# Altium integrated library NSC Interface.IntLib: 511 symbols (part 3 of 17)
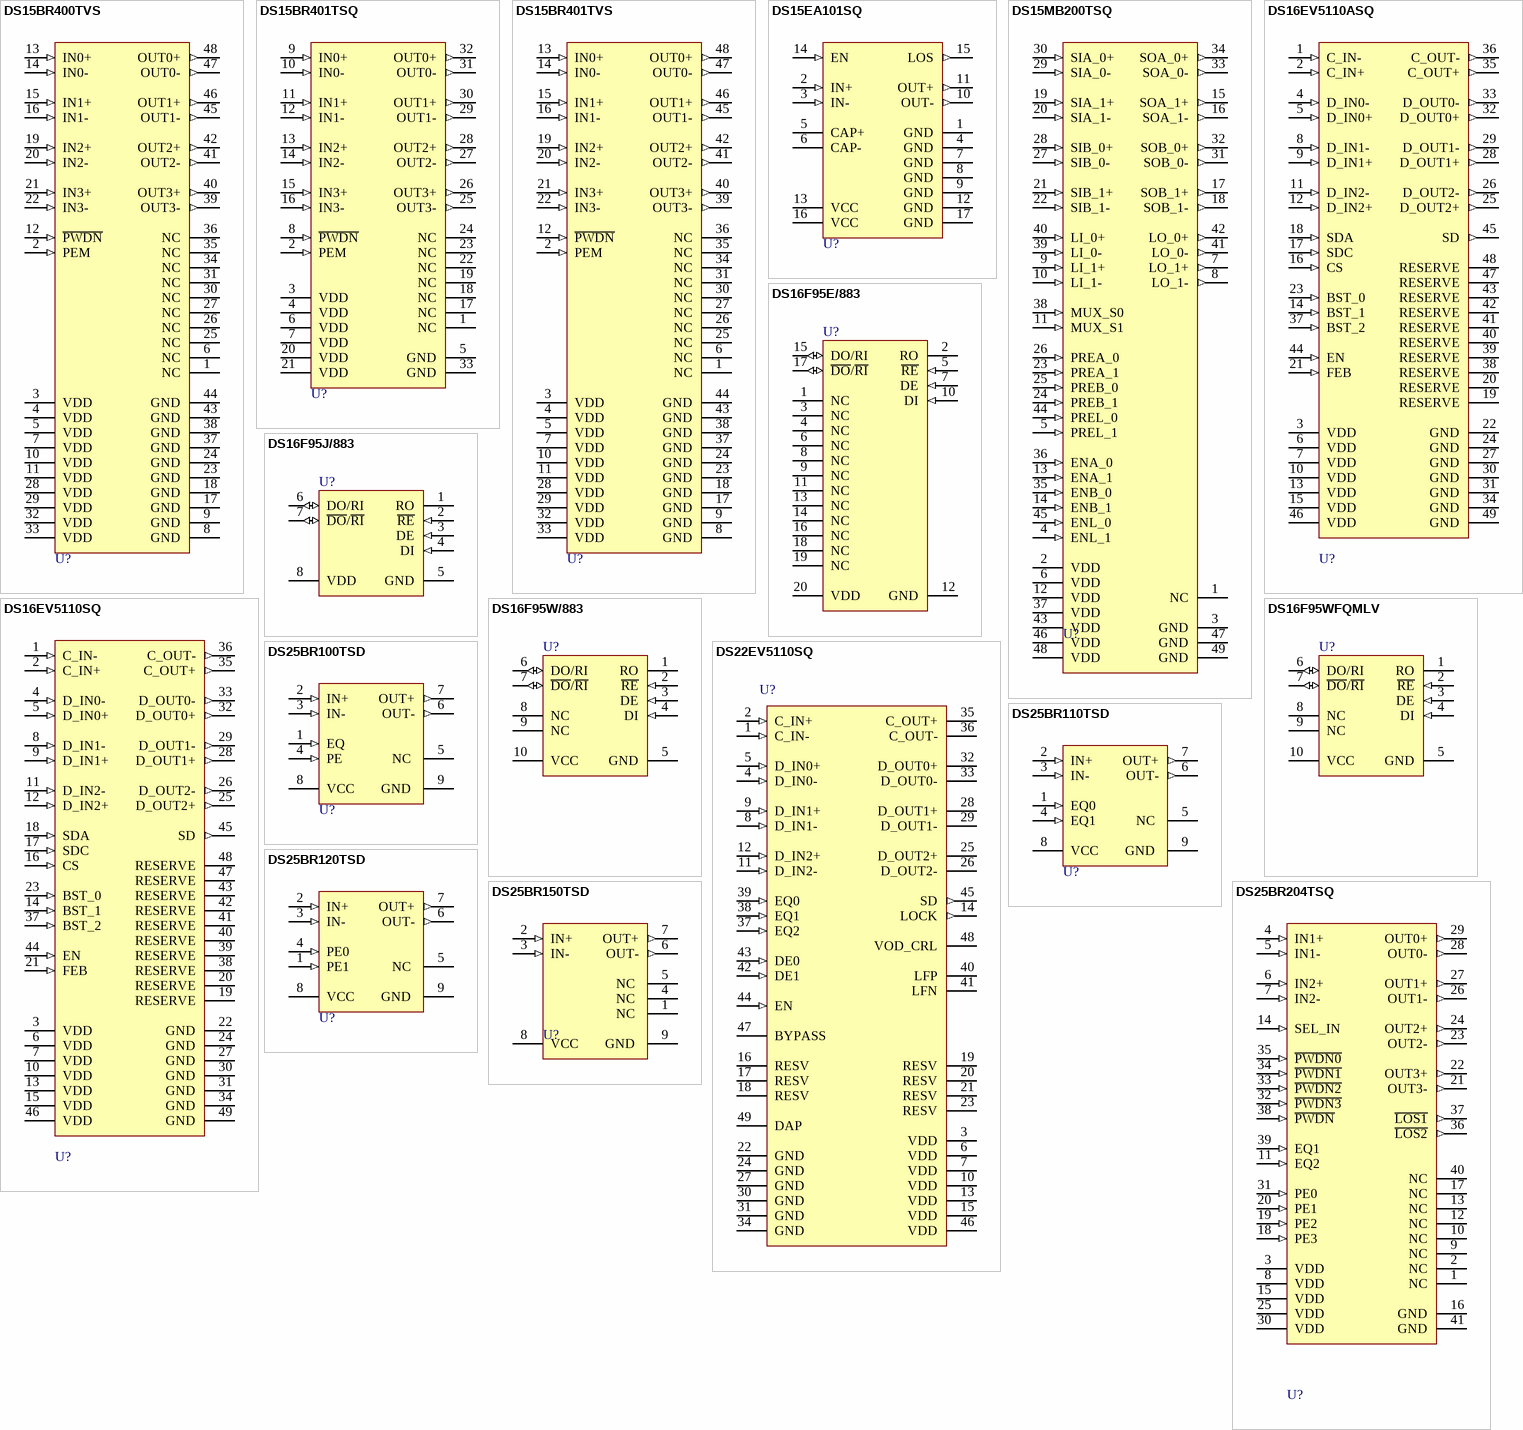
[diagram p44: symbols DS15BR400TVS to DS25BR204TSQ]

## DS15EA101SQ
designator U?
DS15EA101 0.15 to 1.5 Gbps Adaptive Cable Equalizer with LOS Detection; PartNumber: DS15EA101SQ; Manufacturer: National Semiconductor; CompType: Interface IC; PackageTopMarking: NS*UZXYTT*15EA101; PowerWise: N; Published: 4-Dec-2008; DatasheetVersion: Jul-2007; PackageVersion: revA, Oct-2003; PackageReference: SQA16A; Publisher: Altium Limited; PackageDescription: LLP, Plastic, Quad, 4 x 4 x 0.8mm Body, 16 Lead, 0.5mm Pitch, No Pullback; RoHS: Y; PinCount: 16; DigiKeyPartNumber: DS15EA101SQTR-ND; ComponentLink1Description: DS15EA101 Datasheet; ComponentLink1URL: http://www.national.com/ds/DS/DS15EA101.pdf; ComponentLink2Description: DS15EA101 Web Page; ComponentLink2URL: http://www.national.com/pf/DS/DS15EA101.html; ComponentLink3Description: SQA16A Package Page; ComponentLink3URL: http://www.national.com/packaging/folders/sqa16a.html
footprint SQA16A (QFN, 16-Leads, Body 4x4mm, Pitch 0.5mm, NSC Recommended)
pins: 1 GND (power), 2 IN+ (in), 3 IN- (in), 4 GND (power), 5 CAP+, 6 CAP-, 7 GND (power), 8 GND (power), 9 GND (power), 10 OUT- (out), 11 OUT+ (out), 12 GND (power), 13 VCC (power), 14 EN (in), 15 LOS (out), 16 VCC (power), 17 GND (power)

## DS15MB200TSQ
designator U?
Dual 1.5 Gbps 2:1/1:2 LVDS Mux/Buffer with Pre-Emphasis; PartNumber: DS15MB200TSQ; Manufacturer: National Semiconductor; CompType: Interface IC; PackageTopMarking: NS*UZXYTT*15M200; PowerWise: N; Published: 4-Dec-2008; DatasheetVersion: May-2006; PackageVersion: revA, May-2003; PackageReference: SQA48A; Publisher: Altium Limited; PackageDescription: LLP, Plastic, Quad, 7 x 7 x 0.8mm Body, 48 Lead, 0.5mm Pitch, No Pullback; RoHS: O; PinCount: 48; DigiKeyPartNumber: DS15MB200TSQTR-ND; Code_JEDEC: MO-220-WKKD-2; ComponentLink1Description: DS15MB200 Datasheet; ComponentLink1URL: http://www.national.com/ds/DS/DS15MB200.pdf; ComponentLink2Description: DS15MB200 Web Page; ComponentLink2URL: http://www.national.com/pf/DS/DS15MB200.html; ComponentLink3Description: SQA48A Package Page; ComponentLink3URL: http://www.national.com/packaging/folders/sqa48a.html
footprint SQA48A (QFN, 48-Leads, Body 7x7mm, Pitch 0.5mm, NSC Recommended)
pins: 1 NC, 2 VDD (power), 3 GND (power), 4 ENL_1 (in), 5 PREL_1 (in), 6 VDD (power), 7 LO_1+ (out), 8 LO_1- (out), 9 LI_1+ (in), 10 LI_1- (in), 11 MUX_S1 (in), 12 VDD (power), 13 ENA_1 (in), 14 ENB_1 (in), 15 SOA_1+ (out), 16 SOA_1- (out), 17 SOB_1+ (out), 18 SOB_1- (out), 19 SIA_1+ (in), 20 SIA_1- (in), 21 SIB_1+ (in), 22 SIB_1- (in), 23 PREA_1 (in), 24 PREB_1 (in), 25 PREB_0 (in), 26 PREA_0 (in), 27 SIB_0- (in), 28 SIB_0+ (in), 29 SIA_0- (in), 30 SIA_0+ (in), 31 SOB_0- (out), 32 SOB_0+ (out), 33 SOA_0- (out), 34 SOA_0+ (out), 35 ENB_0 (in), 36 ENA_0 (in), 37 VDD (power), 38 MUX_S0 (in), 39 LI_0- (in), 40 LI_0+ (in), 41 LO_0- (out), 42 LO_0+ (out), 43 VDD (power), 44 PREL_0 (in), 45 ENL_0 (in), 46 VDD (power), 47 GND (power), 48 VDD (power), 49 GND (power)

## DS16EV5110ASQ
designator U?
Video Equalizer (3D+C) for DVI, HDMI Source/Repeater/Sink Applications; PartNumber: DS16EV5110ASQ; Manufacturer: National Semiconductor; CompType: Interface IC; PackageTopMarking: NS*UZXYTT*D16EV511A; PowerWise: N; Published: 4-Dec-2008; DatasheetVersion: Oct-2008; PackageVersion: revA, Jul-2004; PackageReference: SQA48D; Publisher: Altium Limited; RoHS: Y; PinCount: 48; ComponentLink1Description: DS16EV5110A Datasheet; ComponentLink1URL: http://www.national.com/ds/DS/DS16EV5110A.pdf; ComponentLink2Description: DS16EV5110A Web Page; ComponentLink2URL: http://www.national.com/pf/DS/DS16EV5110A.html; ComponentLink3Description: SQA48D Package Page; ComponentLink3URL: http://www.national.com/packaging/folders/sqa48d.html
footprint SQA48D (QFN, 48-Leads, Body 7x7mm, Pitch 0.5mm, NSC Recommended)
pins: 1 C_IN- (in), 2 C_IN+ (in), 3 VDD (power), 4 D_IN0- (in), 5 D_IN0+ (in), 6 VDD (power), 7 VDD (power), 8 D_IN1- (in), 9 D_IN1+ (in), 10 VDD (power), 11 D_IN2- (in), 12 D_IN2+ (in), 13 VDD (power), 14 BST_1 (in), 15 VDD (power), 16 CS (in), 17 SDC (in), 18 SDA (in), 19 RESERVE, 20 RESERVE, 21 FEB (in), 22 GND (power), 23 BST_0 (in), 24 GND (power), 25 D_OUT2+ (out), 26 D_OUT2- (out), 27 GND (power), 28 D_OUT1+ (out), 29 D_OUT1- (out), 30 GND (power), 31 GND (power), 32 D_OUT0+ (out), 33 D_OUT0- (out), 34 GND (power), 35 C_OUT+ (out), 36 C_OUT- (out), 37 BST_2 (in), 38 RESERVE, 39 RESERVE, 40 RESERVE, 41 RESERVE, 42 RESERVE, 43 RESERVE, 44 EN (in), 45 SD (out), 46 VDD (power), 47 RESERVE, 48 RESERVE, 49 GND (power)

## DS16EV5110SQ
designator U?
DS16EV5110 Video Equalizer for DVI, HDMI, and CAT5 Cables; PartNumber: DS16EV5110SQ; Manufacturer: National Semiconductor; CompType: Interface IC; PackageTopMarking: NS*UZXYTT*DS16EV511; PowerWise: N; Published: 4-Dec-2008; DatasheetVersion: Jun-2007; PackageVersion: revA, Jul-2004; PackageReference: SQA48D; Publisher: Altium Limited; PackageDescription: LLP, Quad, 7 x 7 x 0.8mm, 48 Lead, 0.5mm Pitch, 4.1 x 4.1mm Exposed Pad; RoHS: Y; PinCount: 48; DigiKeyPartNumber: DS16EV5110SQTR-ND; ComponentLink1Description: DS16EV5110 Datasheet; ComponentLink1URL: http://www.national.com/ds/DS/DS16EV5110.pdf; ComponentLink2Description: DS16EV5110 Web Page; ComponentLink2URL: http://www.national.com/pf/DS/DS16EV5110.html; ComponentLink3Description: SQA48D Package Page; ComponentLink3URL: http://www.national.com/packaging/folders/sqa48d.html
footprint SQA48D (QFN, 48-Leads, Body 7x7mm, Pitch 0.5mm, NSC Recommended)
pins: 1 C_IN- (in), 2 C_IN+ (in), 3 VDD (power), 4 D_IN0- (in), 5 D_IN0+ (in), 6 VDD (power), 7 VDD (power), 8 D_IN1- (in), 9 D_IN1+ (in), 10 VDD (power), 11 D_IN2- (in), 12 D_IN2+ (in), 13 VDD (power), 14 BST_1 (in), 15 VDD (power), 16 CS (in), 17 SDC (in), 18 SDA (in), 19 RESERVE, 20 RESERVE, 21 FEB (in), 22 GND (power), 23 BST_0 (in), 24 GND (power), 25 D_OUT2+ (out), 26 D_OUT2- (out), 27 GND (power), 28 D_OUT1+ (out), 29 D_OUT1- (out), 30 GND (power), 31 GND (power), 32 D_OUT0+ (out), 33 D_OUT0- (out), 34 GND (power), 35 C_OUT+ (out), 36 C_OUT- (out), 37 BST_2 (in), 38 RESERVE, 39 RESERVE, 40 RESERVE, 41 RESERVE, 42 RESERVE, 43 RESERVE, 44 EN (in), 45 SD (out), 46 VDD (power), 47 RESERVE, 48 RESERVE, 49 GND (power)

## DS16F95E/883
designator U?
EIA-485/EIA-422A Differential Bus Transceiver; PartNumber: DS16F95E/883; Manufacturer: National Semiconductor; CompType: Interface IC; PackageTopMarking: NSZSSXXYYA*DS16F95E*/883 Q*5962-*89615012A; PowerWise: N; Published: 4-Dec-2008; DatasheetVersion: Jun-1998; PackageVersion: revF, May-2004; PackageReference: E20A; Publisher: Altium Limited; PackageDescription: Leadless Chip Carrier, Type C, 20 Terminal; RoHS: N; PinCount: 20; Code_JEDEC: MS-004-CB; ComponentLink1Description: DS16F95 Datasheet; ComponentLink1URL: http://www.national.com/ds/DS/DS16F95.pdf; ComponentLink2Description: DS16F95 Web Page; ComponentLink2URL: http://www.national.com/pf/DS/DS16F95.html; ComponentLink3Description: E20A Package Page; ComponentLink3URL: http://www.national.com/packaging/folders/e20a.html
footprint E20A_N (Leadless Chip Carrier, 20-Leads, Body 8.9x8.9mm, Pitch 1.27mm, IPC Medium Density)
footprint E20A_L (Leadless Chip Carrier, 20-Leads, Body 8.9x8.9mm, Pitch 1.27mm, IPC High Density)
footprint E20A_M (Leadless Chip Carrier, 20-Leads, Body 8.9x8.9mm, Pitch 1.27mm, IPC Low Density)
pins: 1 NC, 2 RO (hiz), 3 NC, 4 NC, 5 ~{RE} (in), 6 NC, 7 DE (in), 8 NC, 9 NC, 10 DI (in), 11 NC, 12 GND (power), 13 NC, 14 NC, 15 DO/RI (io), 16 NC, 17 ~{DO}/~{RI} (io), 18 NC, 19 NC, 20 VDD (power)

## DS16F95J/883
designator U?
EIA-485/EIA-422A Differential Bus Transceiver; PartNumber: DS16F95J/883; Manufacturer: National Semiconductor; CompType: Interface IC; PackageTopMarking: NSZSSXXYYA*DS16F95J/883*Q 5962-*8961501PA; PowerWise: N; Published: 4-Dec-2008; DatasheetVersion: Jun-1998; PackageVersion: revM, Jul-2002; PackageReference: J08A; Publisher: Altium Limited; PackageDescription: Cerdip, .400 x .310in Body, 8 Lead, .300in Centers, .100in Pitch; RoHS: N; PinCount: 8; ComponentLink1Description: DS16F95 Datasheet; ComponentLink1URL: http://www.national.com/ds/DS/DS16F95.pdf; ComponentLink2Description: DS16F95 Web Page; ComponentLink2URL: http://www.national.com/pf/DS/DS16F95.html; ComponentLink3Description: J08A Package Page; ComponentLink3URL: http://www.national.com/packaging/folders/j08a.html
footprint J08A (DIP, 8-Leads, Row Spacing 7.62mm, Pitch 2.54mm, Body 9.78x6.73mm)
pins: 1 RO (hiz), 2 ~{RE} (in), 3 DE (in), 4 DI (in), 5 GND (power), 6 DO/RI (io), 7 ~{DO}/~{RI} (io), 8 VDD (power)

## DS16F95W/883
designator U?
EIA-485/EIA-422A Differential Bus Transceivers; PartNumber: DS16F95W/883; Manufacturer: National Semiconductor; CompType: Interface IC; PackageTopMarking: NS*DS16F95W*/883 Q*ZSSXXYYA; PowerWise: N; MilaeroCode: B88; Published: 29-May-2009; DatasheetVersion: Jun-1998; PackageVersion: revH, Sep-2003; PackageReference: W10A; Publisher: Altium Limited; RoHS: N; PinCount: 10; Code_JEDEC: MS-033-AA; ComponentLink1Description: DS16F95 Datasheet; ComponentLink1URL: http://www.national.com/ds/DS/DS16F95.pdf; ComponentLink2Description: DS16F95 Web Page; ComponentLink2URL: http://www.national.com/pf/DS/DS16F95.html; ComponentLink3Description: W10A Package Page; ComponentLink3URL: http://www.national.com/packaging/folders/w10a.html
footprint W10A (DFP; 10 Leads; Body 6.9 x 6.9 mm (LxW max); Pitch 1.27 mm)
pins: 1 RO (hiz), 2 ~{RE} (in), 3 DE (in), 4 DI (in), 5 GND (power), 6 DO/RI (io), 7 ~{DO}/~{RI} (io), 8 NC, 9 NC, 10 VCC (power)

## DS16F95WFQMLV
designator U?
EIA-485/EIA-422A Differential Bus Transceivers; PartNumber: DS16F95WFQMLV; Manufacturer: National Semiconductor; CompType: Interface IC; PackageTopMarking: NS5962F*8961501*VHA DS16F*95WFQV Q*ZSSXXYYA; PowerWise: N; MilaeroCode: DXX; Published: 29-May-2009; DatasheetVersion: Jun-1998; PackageVersion: revH, Sep-2003; PackageReference: W10A; Publisher: Altium Limited; RoHS: N; PinCount: 10; Code_JEDEC: MS-033-AA; ComponentLink1Description: DS16F95 Datasheet; ComponentLink1URL: http://www.national.com/ds/DS/DS16F95.pdf; ComponentLink2Description: DS16F95 Web Page; ComponentLink2URL: http://www.national.com/pf/DS/DS16F95.html; ComponentLink3Description: W10A Package Page; ComponentLink3URL: http://www.national.com/packaging/folders/w10a.html
footprint W10A (DFP; 10 Leads; Body 6.9 x 6.9 mm (LxW max); Pitch 1.27 mm)
pins: 1 RO (hiz), 2 ~{RE} (in), 3 DE (in), 4 DI (in), 5 GND (power), 6 DO/RI (io), 7 ~{DO}/~{RI} (io), 8 NC, 9 NC, 10 VCC (power)

## DS22EV5110SQ
designator U?
DVI, HDMI Extended Reach Equalizer with Retimer and Output De-Emphasis; PartNumber: DS22EV5110SQ; Manufacturer: National Semiconductor; CompType: Interface IC; PackageTopMarking: NS*UZXYTT*22EV5110; PowerWise: N; Published: 9-Oct-2009; DatasheetVersion: May-2009; PackageVersion: revA, May-2003; PackageReference: SQA48A; Publisher: Altium Limited; RoHS: Y; PinCount: 48; DigiKeyPartNumber: DS22EV5110SQ-ND; Code_JEDEC: MO-220-WKKD-2; ComponentLink1Description: DS22EV5110 Datasheet; ComponentLink1URL: http://www.national.com/ds/DS/DS22EV5110.pdf; ComponentLink2Description: DS22EV5110 Web Page; ComponentLink2URL: http://www.national.com/pf/DS/DS22EV5110.html; ComponentLink3Description: SQA48A Package Page; ComponentLink3URL: http://www.national.com/packaging/folders/sqa48a.html
footprint SQA48A (QFN, 48-Leads, Body 7x7mm, Pitch 0.5mm, NSC Recommended)
pins: 1 C_IN- (in), 2 C_IN+ (in), 3 VDD (power), 4 D_IN0- (in), 5 D_IN0+ (in), 6 VDD (power), 7 VDD (power), 8 D_IN1- (in), 9 D_IN1+ (in), 10 VDD (power), 11 D_IN2- (in), 12 D_IN2+ (in), 13 VDD (power), 14 LOCK (out), 15 VDD (power), 16 RESV, 17 RESV, 18 RESV, 19 RESV, 20 RESV, 21 RESV, 22 GND (power), 23 RESV, 24 GND (power), 25 D_OUT2+ (oc), 26 D_OUT2- (oc), 27 GND (power), 28 D_OUT1+ (oc), 29 D_OUT1- (oc), 30 GND (power), 31 GND (power), 32 D_OUT0+ (oc), 33 D_OUT0- (oc), 34 GND (power), 35 C_OUT+ (oc), 36 C_OUT- (oc), 37 EQ2 (in), 38 EQ1 (in), 39 EQ0 (in), 40 LFP, 41 LFN, 42 DE1 (in), 43 DE0 (in), 44 EN (in), 45 SD (out), 46 VDD (power), 47 BYPASS, 48 VOD_CRL, 49 DAP

## DS25BR100TSD
designator U?
3.125 Gbps LVDS Buffer with Transmit Pre-Emphasis and Receive Equalization; PartNumber: DS25BR100TSD; Manufacturer: National Semiconductor; CompType: Interface IC; PackageTopMarking: ZXYTT*2R100; PowerWise: Y; Published: 4-Dec-2008; DatasheetVersion: Nov-2007; PackageVersion: revA, Aug-2003; PackageReference: SDA08A; Publisher: Altium Limited; PackageDescription: LLP, Plastic, Dual, 3 x 3 x 0.8mm Body, 8 Lead, 0.5mm Pitch, No Pullback; RoHS: Y; PinCount: 8; DigiKeyPartNumber: DS25BR100TSDTR-ND; ComponentLink1Description: DS25BR100 Datasheet; ComponentLink1URL: http://www.national.com/ds/DS/DS25BR100.pdf; ComponentLink2Description: DS25BR100 Web Page; ComponentLink2URL: http://www.national.com/pf/DS/DS25BR100.html; ComponentLink3Description: SDA08A Package Page; ComponentLink3URL: http://www.national.com/packaging/folders/sda08a.html
footprint SDA08A (SON, 8-Leads, Body 3x3mm, Pitch 0.5mm, NSC Recommended)
pins: 1 EQ  (in), 2 IN+  (in), 3 IN- (in), 4 PE (in), 5 NC , 6 OUT- (out), 7 OUT+ (out), 8 VCC  (power), 9 GND  (power)

## DS25BR110TSD
designator U?
3.125 Gbps LVDS Buffer with Receive Equalization; PartNumber: DS25BR110TSD; Manufacturer: National Semiconductor; CompType: Interface IC; PackageTopMarking: ZXYTT*2R110; PowerWise: Y; Published: 4-Dec-2008; DatasheetVersion: Nov-2007; PackageVersion: revA, Aug-2003; PackageReference: SDA08A; Publisher: Altium Limited; PackageDescription: LLP, Plastic, Dual, 3 x 3 x 0.8mm Body, 8 Lead, 0.5mm Pitch, No Pullback; RoHS: Y; PinCount: 8; DigiKeyPartNumber: DS25BR110TSDTR-ND; ComponentLink1Description: DS25BR110 Datasheet; ComponentLink1URL: http://www.national.com/ds/DS/DS25BR110.pdf; ComponentLink2Description: DS25BR110 Web Page; ComponentLink2URL: http://www.national.com/pf/DS/DS25BR110.html; ComponentLink3Description: SDA08A Package Page; ComponentLink3URL: http://www.national.com/packaging/folders/sda08a.html
footprint SDA08A (SON, 8-Leads, Body 3x3mm, Pitch 0.5mm, NSC Recommended)
pins: 1 EQ0  (in), 2 IN+  (in), 3 IN- (in), 4 EQ1 (in), 5 NC , 6 OUT- (out), 7 OUT+ (out), 8 VCC  (power), 9 GND  (power)

## DS25BR120TSD
designator U?
3.125 Gbps LVDS Buffer with Transmit Pre-Emphasis; PartNumber: DS25BR120TSD; Manufacturer: National Semiconductor; CompType: Interface IC; PackageTopMarking: ZXYTT*2R120; PowerWise: Y; Published: 4-Dec-2008; DatasheetVersion: Nov-2007; PackageVersion: revA, Aug-2003; PackageReference: SDA08A; Publisher: Altium Limited; PackageDescription: LLP, Plastic, Dual, 3 x 3 x 0.8mm Body, 8 Lead, 0.5mm Pitch, No Pullback; RoHS: Y; PinCount: 8; DigiKeyPartNumber: DS25BR120TSDTR-ND; ComponentLink1Description: DS25BR120 Datasheet; ComponentLink1URL: http://www.national.com/ds/DS/DS25BR120.pdf; ComponentLink2Description: DS25BR120 Web Page; ComponentLink2URL: http://www.national.com/pf/DS/DS25BR120.html; ComponentLink3Description: SDA08A Package Page; ComponentLink3URL: http://www.national.com/packaging/folders/sda08a.html
footprint SDA08A (SON, 8-Leads, Body 3x3mm, Pitch 0.5mm, NSC Recommended)
pins: 1 PE1  (in), 2 IN+  (in), 3 IN- (in), 4 PE0 (in), 5 NC , 6 OUT- (out), 7 OUT+ (out), 8 VCC  (power), 9 GND  (power)

## DS25BR150TSD
designator U?
3.125 Gbps LVDS Buffer; PartNumber: DS25BR150TSD; Manufacturer: National Semiconductor; CompType: Interface IC; PackageTopMarking: ZXYTT*2R150; PowerWise: Y; Published: 4-Dec-2008; DatasheetVersion: Nov-2007; PackageVersion: revA, Aug-2003; PackageReference: SDA08A; Publisher: Altium Limited; PackageDescription: LLP, Plastic, Dual, 3 x 3 x 0.8mm Body, 8 Lead, 0.5mm Pitch, No Pullback; RoHS: Y; PinCount: 8; DigiKeyPartNumber: DS25BR150TSDTR-ND; ComponentLink1Description: DS25BR150 Datasheet; ComponentLink1URL: http://www.national.com/ds/DS/DS25BR150.pdf; ComponentLink2Description: DS25BR150 Web Page; ComponentLink2URL: http://www.national.com/pf/DS/DS25BR150.html; ComponentLink3Description: SDA08A Package Page; ComponentLink3URL: http://www.national.com/packaging/folders/sda08a.html
footprint SDA08A (SON, 8-Leads, Body 3x3mm, Pitch 0.5mm, NSC Recommended)
pins: 1 NC , 2 IN+  (in), 3 IN- (in), 4 NC , 5 NC , 6 OUT- (out), 7 OUT+ (out), 8 VCC  (power), 9 GND  (power)

## DS25BR204TSQ
designator U?
3.125 Gbps 1:4 LVDS Repeater with Transmit Pre-Emphasis and Receive Equalization; PartNumber: DS25BR204TSQ; Manufacturer: National Semiconductor; CompType: Interface IC; PackageTopMarking: NS*UZXYTT*2BR204SQ; PowerWise: N; Published: 4-Dec-2008; DatasheetVersion: Jan-2008; PackageVersion: revB, Mar-2004; PackageReference: SQA40A; Publisher: Altium Limited; PackageDescription: LLP, Plastic, Quad, 6 x 6 x 0.8mm Body, 40 Lead, 0.5mm Pitch, No Pullback; RoHS: Y; PinCount: 40; DigiKeyPartNumber: DS25BR204TSQX-ND; ComponentLink1Description: DS25BR204 Datasheet; ComponentLink1URL: http://www.national.com/ds/DS/DS25BR204.pdf; ComponentLink2Description: DS25BR204 Web Page; ComponentLink2URL: http://www.national.com/pf/DS/DS25BR204.html; ComponentLink3Description: SQA40A Package Page; ComponentLink3URL: http://www.national.com/packaging/folders/sqa40a.html
footprint SQA40A (QFN, 40-Leads, Body 6x6mm, Pitch 0.5mm, NSC Recommended)
pins: 1 NC, 2 NC, 3 VDD (power), 4 IN1+ (in), 5 IN1- (in), 6 IN2+ (in), 7 IN2- (in), 8 VDD (power), 9 NC, 10 NC, 11 EQ2 (in), 12 NC, 13 NC, 14 SEL_IN (in), 15 VDD (power), 16 GND (power), 17 NC, 18 PE3 (in), 19 PE2 (in), 20 PE1 (in), 21 OUT3- (out), 22 OUT3+ (out), 23 OUT2- (out), 24 OUT2+ (out), 25 VDD (power), 26 OUT1- (out), 27 OUT1+ (out), 28 OUT0- (out), 29 OUT0+ (out), 30 VDD (power), 31 PE0 (in), 32 ~{PWDN3} (in), 33 ~{PWDN2} (in), 34 ~{PWDN1} (in), 35 ~{PWDN0} (in), 36 ~{LOS2} (out), 37 ~{LOS1} (out), 38 ~{PWDN} (in), 39 EQ1 (in), 40 NC, 41 GND (power)

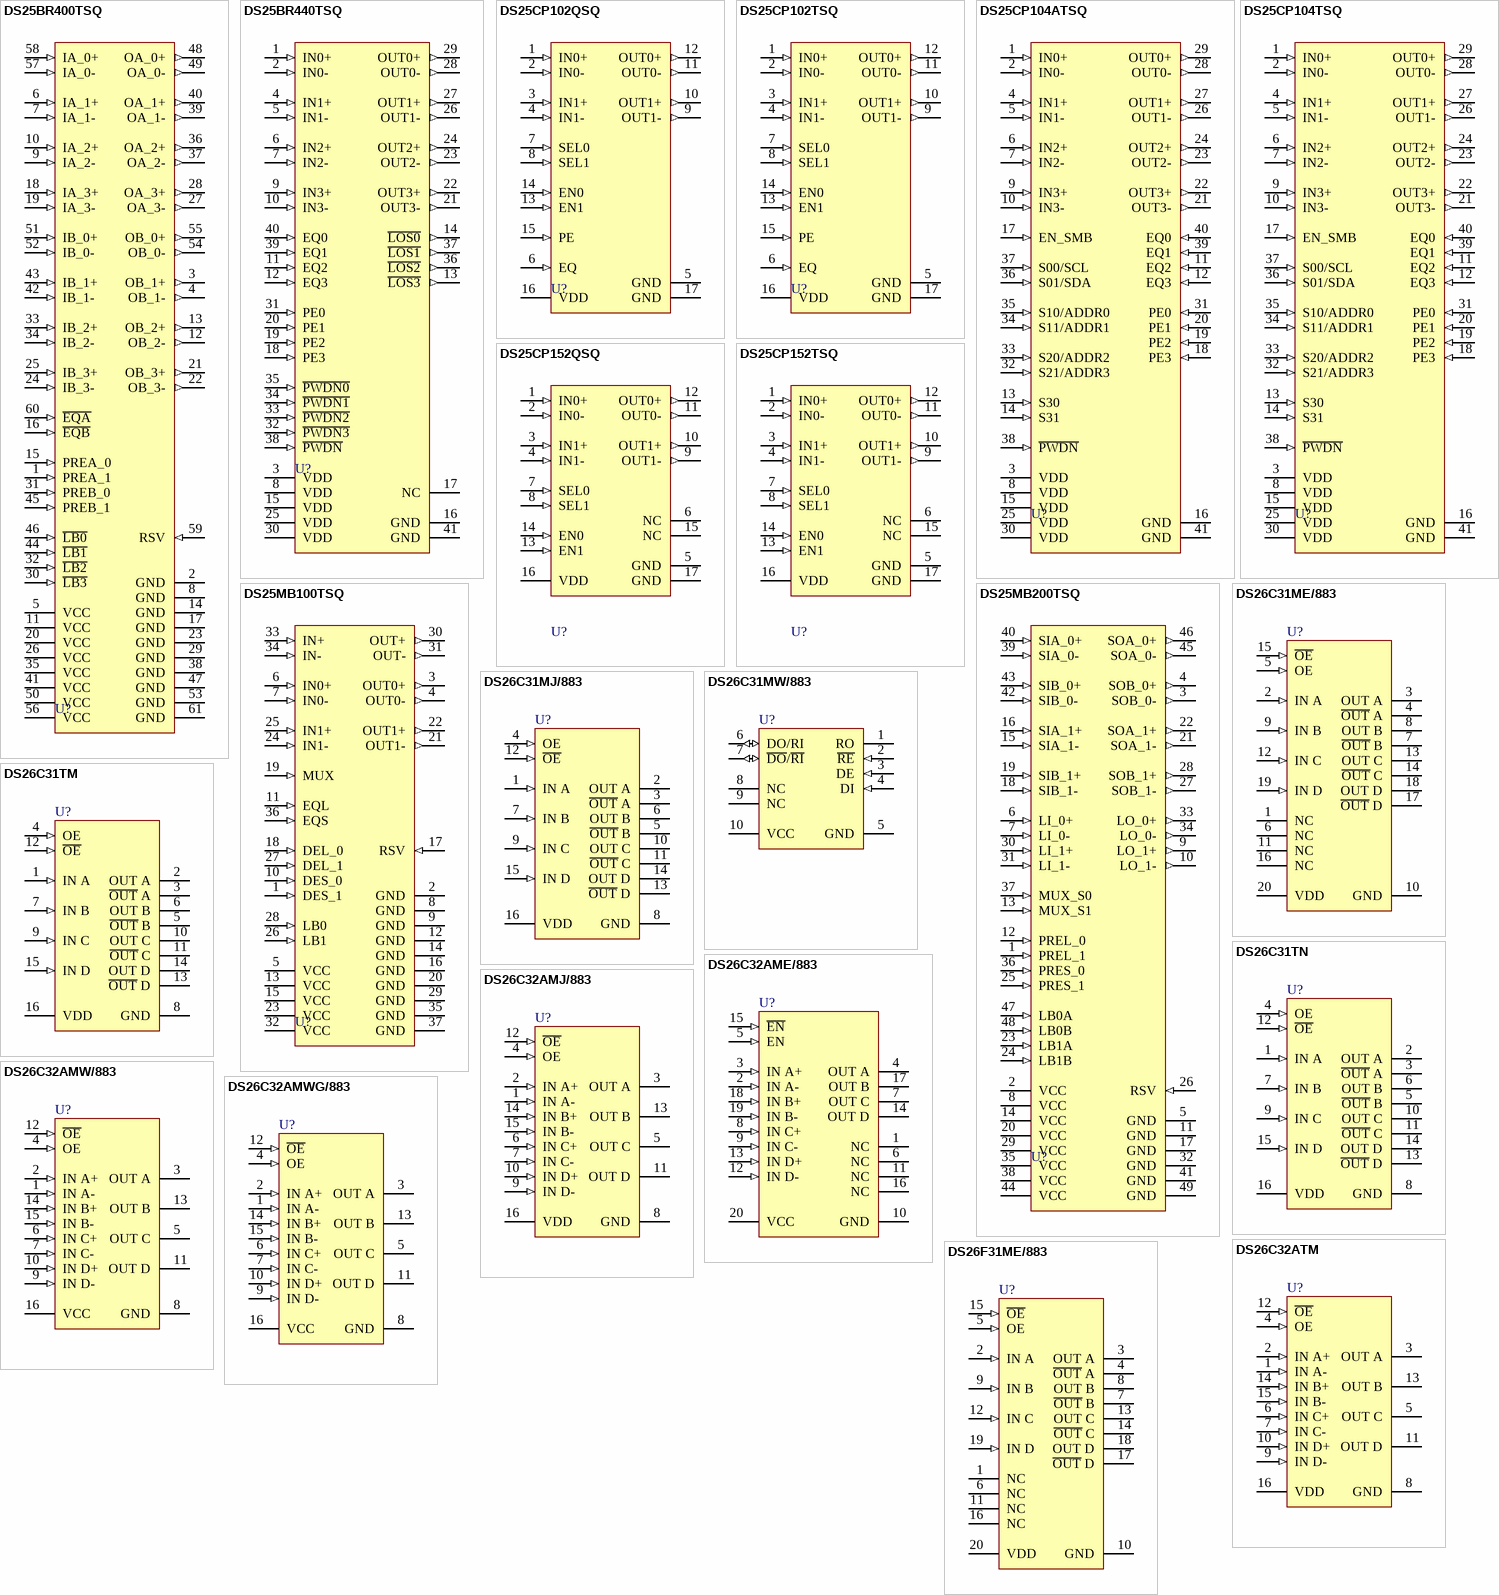
[diagram p8: symbols DS25BR400TSQ to DS26F31ME/883]

## DS25BR400TSQ
designator U?
Quad 2.5 Gbps CML Transceiver withTransmit De-Emphasis and Receive Equalization; PartNumber: DS25BR400TSQ; Manufacturer: National Semiconductor; CompType: Interface IC; PackageTopMarking: NS*UZXYTT*DS25BR400*TSQ; PowerWise: Y; Published: 4-Dec-2008; DatasheetVersion: Mar-2008; PackageVersion: revA, Jun-2005; PackageReference: SQA60A; Publisher: Altium Limited; PackageDescription: LLP, Quad, 9 x 9 x 0.8mm, 60 Lead, 0.5mm Pitch, No Pullback; RoHS: Y; PinCount: 60; DigiKeyPartNumber: DS25BR400TSQTR-ND; ComponentLink1Description: DS25BR400 Datasheet; ComponentLink1URL: http://www.national.com/ds/DS/DS25BR400.pdf; ComponentLink2Description: DS25BR400 Web Page; ComponentLink2URL: http://www.national.com/pf/DS/DS25BR400.html; ComponentLink3Description: SQA60A Package Page; ComponentLink3URL: http://www.national.com/packaging/folders/sqa60a.html
footprint SQA60A (QFN, 60-Leads, Body 9x9mm, Pitch 0.5mm, NSC Recommended)
pins: 1 PREA_1 (in), 2 GND (power), 3 OB_1+ (out), 4 OB_1- (out), 5 VCC (power), 6 IA_1+ (in), 7 IA_1- (in), 8 GND (power), 9 IA_2- (in), 10 IA_2+ (in), 11 VCC (power), 12 OB_2- (out), 13 OB_2+ (out), 14 GND (power), 15 PREA_0 (in), 16 ~{EQB} (in), 17 GND (power), 18 IA_3+ (in), 19 IA_3- (in), 20 VCC (power), 21 OB_3+ (out), 22 OB_3- (out), 23 GND (power), 24 IB_3- (in), 25 IB_3+ (in), 26 VCC (power), 27 OA_3- (out), 28 OA_3+ (out), 29 GND (power), 30 ~{LB3} (in), 31 PREB_0 (in), 32 ~{LB2} (in), 33 IB_2+ (in), 34 IB_2- (in), 35 VCC (power), 36 OA_2+ (out), 37 OA_2- (out), 38 GND (power), 39 OA_1- (out), 40 OA_1+ (out), 41 VCC (power), 42 IB_1- (in), 43 IB_1+ (in), 44 ~{LB1} (in), 45 PREB_1 (in), 46 ~{LB0} (in), 47 GND (power), 48 OA_0+ (out), 49 OA_0- (out), 50 VCC (power), 51 IB_0+ (in), 52 IB_0- (in), 53 GND (power), 54 OB_0- (out), 55 OB_0+ (out), 56 VCC (power), 57 IA_0- (in), 58 IA_0+ (in), 59 RSV (in), 60 ~{EQA} (in), 61 GND (power)

## DS25BR440TSQ
designator U?
3.125 Gbps Quad LVDS Buffer with Transmit Pre-Emphasis and Receive Equalization; PartNumber: DS25BR440TSQ; Manufacturer: National Semiconductor; CompType: Interface IC; PackageTopMarking: NS*UZXYTT*2BR440SQ; PowerWise: N; Published: 4-Dec-2008; DatasheetVersion: Feb-2008; PackageVersion: revB, Mar-2004; PackageReference: SQA40A; Publisher: Altium Limited; PackageDescription: LLP, Plastic, Quad, 6 x 6 x 0.8mm Body, 40 Lead, 0.5mm Pitch, No Pullback; RoHS: Y; PinCount: 40; DigiKeyPartNumber: DS25BR440TSQTR-ND; ComponentLink1Description: DS25BR440 Datasheet; ComponentLink1URL: http://www.national.com/ds/DS/DS25BR440.pdf; ComponentLink2Description: DS25BR440 Web Page; ComponentLink2URL: http://www.national.com/pf/DS/DS25BR440.html; ComponentLink3Description: SQA40A Package Page; ComponentLink3URL: http://www.national.com/packaging/folders/sqa40a.html
footprint SQA40A (QFN, 40-Leads, Body 6x6mm, Pitch 0.5mm, NSC Recommended)
pins: 1 IN0+ (in), 2 IN0- (in), 3 VDD (power), 4 IN1+ (in), 5 IN1- (in), 6 IN2+ (in), 7 IN2- (in), 8 VDD (power), 9 IN3+ (in), 10 IN3- (in), 11 EQ2 (in), 12 EQ3 (in), 13 ~{LOS3} (out), 14 ~{LOS0} (out), 15 VDD (power), 16 GND (power), 17 NC, 18 PE3 (in), 19 PE2 (in), 20 PE1 (in), 21 OUT3- (out), 22 OUT3+ (out), 23 OUT2- (out), 24 OUT2+ (out), 25 VDD (power), 26 OUT1- (out), 27 OUT1+ (out), 28 OUT0- (out), 29 OUT0+ (out), 30 VDD (power), 31 PE0 (in), 32 ~{PWDN3} (in), 33 ~{PWDN2} (in), 34 ~{PWDN1} (in), 35 ~{PWDN0} (in), 36 ~{LOS2} (out), 37 ~{LOS1} (out), 38 ~{PWDN} (in), 39 EQ1 (in), 40 EQ0 (in), 41 GND (power)

## DS25CP102QSQ
designator U?
Automotive 3.125 Gbps 2X2 LVDS Crosspoint Switch with Transmit Pre-Emphasis and Receive Equalization; PartNumber: DS25CP102QSQ; Manufacturer: National Semiconductor; CompType: Interface IC; PackageTopMarking: NS*UZXYTT*2C102QS; PowerWise: Y; Published: 4-Dec-2008; DatasheetVersion: Jul-2008; PackageVersion: revA, Oct-2003; PackageReference: SQA16A; Publisher: Altium Limited; RoHS: Y; PinCount: 16; DigiKeyPartNumber: DS25CP102QSQCT-ND; ComponentLink1Description: DS25CP102Q Datasheet; ComponentLink1URL: http://www.national.com/ds/DS/DS25CP102Q.pdf; ComponentLink2Description: DS25CP102Q Web Page; ComponentLink2URL: http://www.national.com/pf/DS/DS25CP102Q.html; ComponentLink3Description: SQA16A Package Page; ComponentLink3URL: http://www.national.com/packaging/folders/sqa16a.html
footprint SQA16A (QFN, 16-Leads, Body 4x4mm, Pitch 0.5mm, NSC Recommended)
pins: 1 IN0+ (in), 2 IN0- (in), 3 IN1+ (in), 4 IN1- (in), 5 GND (power), 6 EQ (in), 7 SEL0 (in), 8 SEL1 (in), 9 OUT1- (out), 10 OUT1+ (out), 11 OUT0- (out), 12 OUT0+ (out), 13 EN1 (in), 14 EN0 (in), 15 PE (in), 16 VDD (power), 17 GND (power)

## DS25CP102TSQ
designator U?
3.125 Gbps 2X2 LVDS Crosspoint Switch with Transmit Pre-Emphasis and Receive Equalization; PartNumber: DS25CP102TSQ; Manufacturer: National Semiconductor; CompType: Interface IC; PackageTopMarking: NS*UZXYTT*2C102SQ; PowerWise: Y; Published: 4-Dec-2008; DatasheetVersion: Jan-2008; PackageVersion: revA, Oct-2003; PackageReference: SQA16A; Publisher: Altium Limited; PackageDescription: LLP, Plastic, Quad, 4 x 4 x 0.8mm Body, 16 Lead, 0.5mm Pitch, No Pullback; RoHS: Y; PinCount: 16; DigiKeyPartNumber: DS25CP102EVK-ND; ComponentLink1Description: DS25CP102 Datasheet; ComponentLink1URL: http://www.national.com/ds/DS/DS25CP102.pdf; ComponentLink2Description: DS25CP102 Web Page; ComponentLink2URL: http://www.national.com/pf/DS/DS25CP102.html; ComponentLink3Description: SQA16A Package Page; ComponentLink3URL: http://www.national.com/packaging/folders/sqa16a.html
footprint SQA16A (QFN, 16-Leads, Body 4x4mm, Pitch 0.5mm, NSC Recommended)
pins: 1 IN0+ (in), 2 IN0- (in), 3 IN1+ (in), 4 IN1- (in), 5 GND (power), 6 EQ (in), 7 SEL0 (in), 8 SEL1 (in), 9 OUT1- (out), 10 OUT1+ (out), 11 OUT0- (out), 12 OUT0+ (out), 13 EN1 (in), 14 EN0 (in), 15 PE (in), 16 VDD (power), 17 GND (power)

## DS25CP104ATSQ
designator U?
3.125 Gbps 4x4 LVDS Crosspoint Switch with Transmit Pre-Emphasis and Receive Equalization; PartNumber: DS25CP104ATSQ; Manufacturer: National Semiconductor; CompType: Interface IC; PackageTopMarking: NS*UZXYTT*2CP104AS; PowerWise: Y; Published: 4-Dec-2008; DatasheetVersion: Aug-2008; PackageVersion: revB, Mar-2004; PackageReference: SQA40A; Publisher: Altium Limited; RoHS: Y; PinCount: 40; DigiKeyPartNumber: DS25CP104ATSQCT-ND; ComponentLink1Description: DS25CP104A Datasheet; ComponentLink1URL: http://www.national.com/ds/DS/DS25CP104A.pdf; ComponentLink2Description: DS25CP104A Web Page; ComponentLink2URL: http://www.national.com/pf/DS/DS25CP104A.html; ComponentLink3Description: SQA40A Package Page; ComponentLink3URL: http://www.national.com/packaging/folders/sqa40a.html
footprint SQA40A (QFN, 40-Leads, Body 6x6mm, Pitch 0.5mm, NSC Recommended)
pins: 1 IN0+ (in), 2 IN0- (in), 3 VDD (power), 4 IN1+ (in), 5 IN1- (in), 6 IN2+ (in), 7 IN2- (in), 8 VDD (power), 9 IN3+ (in), 10 IN3- (in), 11 EQ2 (in), 12 EQ3 (in), 13 S30 (in), 14 S31 (in), 15 VDD (power), 16 GND (power), 17 EN_SMB (in), 18 PE3 (in), 19 PE2 (in), 20 PE1 (in), 21 OUT3- (out), 22 OUT3+ (out), 23 OUT2- (out), 24 OUT2+ (out), 25 VDD (power), 26 OUT1- (out), 27 OUT1+ (out), 28 OUT0- (out), 29 OUT0+ (out), 30 VDD (power), 31 PE0 (in), 32 S21/ADDR3 (in), 33 S20/ADDR2 (in), 34 S11/ADDR1 (in), 35 S10/ADDR0 (in), 36 S01/SDA (in), 37 S00/SCL (in), 38 ~{PWDN} (in), 39 EQ1 (in), 40 EQ0 (in), 41 GND (power)

## DS25CP104TSQ
designator U?
3.125 Gbps 4x4 LVDS Crosspoint Switch with Transmit Pre-Emphasis and Receive Equalization; PartNumber: DS25CP104TSQ; Manufacturer: National Semiconductor; CompType: Interface IC; PackageTopMarking: NS*UZXYTT*2CP104SQ; Published: 4-Dec-2008; DatasheetVersion: Nov-2007; PackageVersion: revB, Mar-2004; PackageReference: SQA40A; Publisher: Altium Limited; PackageDescription: LLP, Plastic, Quad, 6 x 6 x 0.8mm Body, 40 Lead, 0.5mm Pitch, No Pullback; RoHS: Y; PinCount: 40; DigiKeyPartNumber: DS25CP104TSQTR-ND; ComponentLink1Description: DS25CP104 Datasheet; ComponentLink1URL: http://www.national.com/ds/DS/DS25CP104.pdf; ComponentLink2Description: DS25CP104 Web Page; ComponentLink2URL: http://www.national.com/pf/DS/DS25CP104.html; ComponentLink3Description: SQA40A Package Page; ComponentLink3URL: http://www.national.com/packaging/folders/sqa40a.html
footprint SQA40A (QFN, 40-Leads, Body 6x6mm, Pitch 0.5mm, NSC Recommended)
pins: 1 IN0+ (in), 2 IN0- (in), 3 VDD (power), 4 IN1+ (in), 5 IN1- (in), 6 IN2+ (in), 7 IN2- (in), 8 VDD (power), 9 IN3+ (in), 10 IN3- (in), 11 EQ2 (in), 12 EQ3 (in), 13 S30 (in), 14 S31 (in), 15 VDD (power), 16 GND (power), 17 EN_SMB (in), 18 PE3 (in), 19 PE2 (in), 20 PE1 (in), 21 OUT3- (out), 22 OUT3+ (out), 23 OUT2- (out), 24 OUT2+ (out), 25 VDD (power), 26 OUT1- (out), 27 OUT1+ (out), 28 OUT0- (out), 29 OUT0+ (out), 30 VDD (power), 31 PE0 (in), 32 S21/ADDR3 (in), 33 S20/ADDR2 (in), 34 S11/ADDR1 (in), 35 S10/ADDR0 (in), 36 S01/SDA (in), 37 S00/SCL (in), 38 ~{PWDN} (in), 39 EQ1 (in), 40 EQ0 (in), 41 GND (power)

## DS25CP152QSQ
designator U?
Automotive 3.125 Gbps LVDS 2x2 Crosspoint Switch; PartNumber: DS25CP152QSQ; Manufacturer: National Semiconductor; CompType: Interface IC; PackageTopMarking: NS*UZXYTT*2C152QS; PowerWise: Y; Published: 4-Dec-2008; DatasheetVersion: Jul-2008; PackageVersion: revA, Oct-2003; PackageReference: SQA16A; Publisher: Altium Limited; RoHS: Y; PinCount: 16; DigiKeyPartNumber: DS25CP152QSQCT-ND; ComponentLink1Description: DS25CP152Q Datasheet; ComponentLink1URL: http://www.national.com/ds/DS/DS25CP152Q.pdf; ComponentLink2Description: DS25CP152Q Web Page; ComponentLink2URL: http://www.national.com/pf/DS/DS25CP152Q.html; ComponentLink3Description: SQA16A Package Page; ComponentLink3URL: http://www.national.com/packaging/folders/sqa16a.html
footprint SQA16A (QFN, 16-Leads, Body 4x4mm, Pitch 0.5mm, NSC Recommended)
pins: 1 IN0+ (in), 2 IN0- (in), 3 IN1+ (in), 4 IN1- (in), 5 GND (power), 6 NC, 7 SEL0 (in), 8 SEL1 (in), 9 OUT1- (out), 10 OUT1+ (out), 11 OUT0- (out), 12 OUT0+ (out), 13 EN1 (in), 14 EN0 (in), 15 NC, 16 VDD (power), 17 GND (power)

## DS25CP152TSQ
designator U?
3.125 Gbps LVDS 2x2 Crosspoint Switch; PartNumber: DS25CP152TSQ; Manufacturer: National Semiconductor; CompType: Interface IC; PackageTopMarking: NS*UZXYTT*2C152SQ; PowerWise: Y; Published: 4-Dec-2008; DatasheetVersion: Jan-2008; PackageVersion: revA, Oct-2003; PackageReference: SQA16A; Publisher: Altium Limited; PackageDescription: LLP, Plastic, Quad, 4 x 4 x 0.8mm Body, 16 Lead, 0.5mm Pitch, No Pullback; RoHS: Y; PinCount: 16; DigiKeyPartNumber: DS25CP152TSQTR-ND; ComponentLink1Description: DS25CP152 Datasheet; ComponentLink1URL: http://www.national.com/ds/DS/DS25CP152.pdf; ComponentLink2Description: DS25CP152 Web Page; ComponentLink2URL: http://www.national.com/pf/DS/DS25CP152.html; ComponentLink3Description: SQA16A Package Page; ComponentLink3URL: http://www.national.com/packaging/folders/sqa16a.html
footprint SQA16A (QFN, 16-Leads, Body 4x4mm, Pitch 0.5mm, NSC Recommended)
pins: 1 IN0+ (in), 2 IN0- (in), 3 IN1+ (in), 4 IN1- (in), 5 GND (power), 6 NC, 7 SEL0 (in), 8 SEL1 (in), 9 OUT1- (out), 10 OUT1+ (out), 11 OUT0- (out), 12 OUT0+ (out), 13 EN1 (in), 14 EN0 (in), 15 NC, 16 VDD (power), 17 GND (power)

## DS25MB100TSQ
designator U?
2.5 Gbps 2:1/1:2 CML Mux/Buffer with Transmit De-Emphasis and Receive Equalization; PartNumber: DS25MB100TSQ; Manufacturer: National Semiconductor; CompType: Interface IC; PackageTopMarking: NS*UZXYTT*25MB100; PowerWise: N; Published: 4-Dec-2008; DatasheetVersion: Apr-2008; PackageVersion: revA, Jun-2003; PackageReference: SQA36A; Publisher: Altium Limited; PackageDescription: LLP, Plastic, Quad, 6 x 6 x 0.8mm Body, 36 Lead, 0.5mm Pitch, No Pullback; RoHS: Y; PinCount: 36; DigiKeyPartNumber: DS25MB100TSQTR-ND; ComponentLink1Description: DS25MB100 Datasheet; ComponentLink1URL: http://www.national.com/ds/DS/DS25MB100.pdf; ComponentLink2Description: DS25MB100 Web Page; ComponentLink2URL: http://www.national.com/pf/DS/DS25MB100.html; ComponentLink3Description: SQA36A Package Page; ComponentLink3URL: http://www.national.com/packaging/folders/sqa36a.html
footprint SQA36A (QFN, 36-Leads, Body 6x6mm, Pitch 0.5mm, NSC Recommended)
pins: 1 DES_1 (in), 2 GND (power), 3 OUT0+ (out), 4 OUT0- (out), 5 VCC (power), 6 IN0+ (in), 7 IN0- (in), 8 GND (power), 9 GND (power), 10 DES_0 (in), 11 EQL (in), 12 GND (power), 13 VCC (power), 14 GND (power), 15 VCC (power), 16 GND (power), 17 RSV (in), 18 DEL_0 (in), 19 MUX (in), 20 GND (power), 21 OUT1- (out), 22 OUT1+ (out), 23 VCC (power), 24 IN1- (in), 25 IN1+ (in), 26 LB1 (in), 27 DEL_1 (in), 28 LB0 (in), 29 GND (power), 30 OUT+ (out), 31 OUT- (out), 32 VCC (power), 33 IN+ (in), 34 IN- (in), 35 GND (power), 36 EQS (in), 37 GND (power)

## DS25MB200TSQ
designator U?
Dual 2.5 Gbps 2:1/1:2 CML Mux/Buffer with Transmit Pre-Emphasis and Receive Equalization; PartNumber: DS25MB200TSQ; Manufacturer: National Semiconductor; CompType: Interface IC; PackageTopMarking: NS*UZXYTT*25MB200; PowerWise: N; Published: 4-Dec-2008; DatasheetVersion: Apr-2008; PackageVersion: revA, Jul-2004; PackageReference: SQA48D; Publisher: Altium Limited; PackageDescription: LLP, Quad, 7 x 7 x 0.8mm, 48 Lead, 0.5mm Pitch, 4.1 x 4.1mm Exposed Pad; RoHS: Y; PinCount: 48; DigiKeyPartNumber: DS25MB200TSQTR-ND; ComponentLink1Description: DS25MB200 Datasheet; ComponentLink1URL: http://www.national.com/ds/DS/DS25MB200.pdf; ComponentLink2Description: DS25MB200 Web Page; ComponentLink2URL: http://www.national.com/pf/DS/DS25MB200.html; ComponentLink3Description: SQA48D Package Page; ComponentLink3URL: http://www.national.com/packaging/folders/sqa48d.html
footprint SQA48D (QFN, 48-Leads, Body 7x7mm, Pitch 0.5mm, NSC Recommended)
pins: 1 PREL_1 (in), 2 VCC (power), 3 SOB_0- (out), 4 SOB_0+ (out), 5 GND (power), 6 LI_0+ (in), 7 LI_0- (in), 8 VCC (power), 9 LO_1+ (out), 10 LO_1- (out), 11 GND (power), 12 PREL_0 (in), 13 MUX_S1 (in), 14 VCC (power), 15 SIA_1- (in), 16 SIA_1+ (in), 17 GND (power), 18 SIB_1- (in), 19 SIB_1+ (in), 20 VCC (power), 21 SOA_1- (out), 22 SOA_1+ (out), 23 LB1A (in), 24 LB1B (in), 25 PRES_1 (in), 26 RSV (in), 27 SOB_1- (out), 28 SOB_1+ (out), 29 VCC (power), 30 LI_1+ (in), 31 LI_1- (in), 32 GND (power), 33 LO_0+ (out), 34 LO_0- (out), 35 VCC (power), 36 PRES_0 (in), 37 MUX_S0 (in), 38 VCC (power), 39 SIA_0- (in), 40 SIA_0+ (in), 41 GND (power), 42 SIB_0- (in), 43 SIB_0+ (in), 44 VCC (power), 45 SOA_0- (out), 46 SOA_0+ (out), 47 LB0A (in), 48 LB0B (in), 49 GND (power)

## DS26C31ME/883
designator U?
CMOS Quad Tri-State Differential Line Driver; PartNumber: DS26C31ME/883; Manufacturer: National Semiconductor; CompType: Interface IC; PackageTopMarking: NS*ZSSXXYYA*DS26C31ME/*883 Q 5962-*9163901M2A; PowerWise: N; Published: 4-Dec-2008; DatasheetVersion: Jun-1998; PackageVersion: revF, May-2004; PackageReference: E20A; Publisher: Altium Limited; PackageDescription: Leadless Chip Carrier, Type C, 20 Terminal; RoHS: N; PinCount: 20; Code_JEDEC: MS-004-CB; ComponentLink1Description: DS26C31M Datasheet; ComponentLink1URL: http://www.national.com/ds/DS/DS26C31M.pdf; ComponentLink2Description: DS26C31M Web Page; ComponentLink2URL: http://www.national.com/pf/DS/DS26C31M.html; ComponentLink3Description: E20A Package Page; ComponentLink3URL: http://www.national.com/packaging/folders/e20a.html
footprint E20A_N (Leadless Chip Carrier, 20-Leads, Body 8.9x8.9mm, Pitch 1.27mm, IPC Medium Density)
footprint E20A_L (Leadless Chip Carrier, 20-Leads, Body 8.9x8.9mm, Pitch 1.27mm, IPC High Density)
footprint E20A_M (Leadless Chip Carrier, 20-Leads, Body 8.9x8.9mm, Pitch 1.27mm, IPC Low Density)
pins: 1 NC, 2 IN A (in), 3 OUT A (hiz), 4 ~{OUT} A (hiz), 5 OE (in), 6 NC, 7 ~{OUT} B (hiz), 8 OUT B (hiz), 9 IN B (in), 10 GND (power), 11 NC, 12 IN C (in), 13 OUT C (hiz), 14 ~{OUT} C (hiz), 15 ~{OE} (in), 16 NC, 17 ~{OUT} D (hiz), 18 OUT D (hiz), 19 IN D (in), 20 VDD (power)

## DS26C31MJ/883
designator U?
CMOS Quad Tri-State Differential Line Driver; PartNumber: DS26C31MJ/883; Manufacturer: National Semiconductor; CompType: Interface IC; PackageTopMarking: NSZSSXXYYA*DS26C31MJ/883 Q*5962-9163901MEA; PowerWise: N; Published: 4-Dec-2008; DatasheetVersion: Jun-1998; PackageVersion: revL, Sep-1993; PackageReference: J16A; Publisher: Altium Limited; PackageDescription: Cerdip (J), 16 Lead; RoHS: N; PinCount: 16; ComponentLink1Description: DS26C31M Datasheet; ComponentLink1URL: http://www.national.com/ds/DS/DS26C31M.pdf; ComponentLink2Description: DS26C31M Web Page; ComponentLink2URL: http://www.national.com/pf/DS/DS26C31M.html; ComponentLink3Description: J16A Package Page; ComponentLink3URL: http://www.national.com/packaging/folders/j16a.html
footprint J16A (DIP, 16-Leads, Row Spacing 7.62mm, Pitch 2.54mm, Body 19.56x6.73mm)
pins: 1 IN A (in), 2 OUT A (hiz), 3 ~{OUT} A (hiz), 4 OE (in), 5 ~{OUT} B (hiz), 6 OUT B (hiz), 7 IN B (in), 8 GND (power), 9 IN C (in), 10 OUT C (hiz), 11 ~{OUT} C (hiz), 12 ~{OE} (in), 13 ~{OUT} D (hiz), 14 OUT D (hiz), 15 IN D (in), 16 VDD (power)

## DS26C31MW/883
designator U?
CMOS Quad Tri-State Differential Line Driver; PartNumber: DS26C31MW/883; Manufacturer: National Semiconductor; CompType: Interface IC; PackageTopMarking: NSZSSXXYYA*DS26C31MW*/883 5962-*9163901MFA*Q; PowerWise: N; MilaeroCode: B88; Published: 29-May-2009; DatasheetVersion: Jun-1998; PackageVersion: revT, Jul-2005; PackageReference: W16A; Publisher: Altium Limited; RoHS: N; PinCount: 16; Code_JEDEC: MO-092-AC; ComponentLink1Description: DS26C31M Datasheet; ComponentLink1URL: http://www.national.com/ds/DS/DS26C31M.pdf; ComponentLink2Description: DS26C31M Web Page; ComponentLink2URL: http://www.national.com/pf/DS/DS26C31M.html; ComponentLink3Description: W16A Package Page; ComponentLink3URL: http://www.national.com/packaging/folders/w16a.html
footprint W16A (DFP; 16 Leads; Body 9.9 x 7.6 mm (LxW max); Pitch 1.27 mm)
pins: 1 RO (hiz), 2 ~{RE} (in), 3 DE (in), 4 DI (in), 5 GND (power), 6 DO/RI (io), 7 ~{DO}/~{RI} (io), 8 NC, 9 NC, 10 VCC (power)

## DS26C31TM
designator U?
CMOS Quad Tri-State Differential Line Driver; PartNumber: DS26C31TM; Manufacturer: National Semiconductor; CompType: Interface IC; PackageTopMarking: NSUZXYTT*DS26C31TM; PowerWise: N; Published: 4-Dec-2008; DatasheetVersion: Jun-1998; PackageVersion: revJ, Aug-1995; PackageReference: M16A; Publisher: Altium Limited; PackageDescription: Molded Package, S.O., .150in Wide, 16 Lead; RoHS: O; PinCount: 16; DigiKeyPartNumber: DS26C31TM-ND; Code_JEDEC: MS-012-AC; Code_IPC: SOIC127P600-16; ComponentLink1Description: DS26C31T Datasheet; ComponentLink1URL: http://www.national.com/ds/DS/DS26C31T.pdf; ComponentLink2Description: DS26C31T Web Page; ComponentLink2URL: http://www.national.com/pf/DS/DS26C31T.html; ComponentLink3Description: M16A Package Page; ComponentLink3URL: http://www.national.com/packaging/folders/m16a.html
footprint M16A_N (SOIC, 16-Leads, Body 9.9x3.9mm, Pitch 1.27mm, IPC Medium Density)
footprint M16A_L (SOIC, 16-Leads, Body 9.9x3.9mm, Pitch 1.27mm, IPC High Density)
footprint M16A_M (SOIC, 16-Leads, Body 9.9x3.9mm, Pitch 1.27mm, IPC Low Density)
pins: 1 IN A (in), 2 OUT A (hiz), 3 ~{OUT} A (hiz), 4 OE (in), 5 ~{OUT} B (hiz), 6 OUT B (hiz), 7 IN B (in), 8 GND (power), 9 IN C (in), 10 OUT C (hiz), 11 ~{OUT} C (hiz), 12 ~{OE} (in), 13 ~{OUT} D (hiz), 14 OUT D (hiz), 15 IN D (in), 16 VDD (power)

## DS26C31TN
designator U?
CMOS Quad Tri-State Differential Line Driver; PartNumber: DS26C31TN; Manufacturer: National Semiconductor; CompType: Interface IC; PackageTopMarking: NSUZXYYTT*DS26C31TN; PowerWise: N; Published: 4-Dec-2008; DatasheetVersion: Jun-1998; PackageVersion: revG, May-2006; PackageReference: N16E; Publisher: Altium Limited; PackageDescription: MDIP, .750 x .250 x.130in, 16 Lead, .100in Pitch; RoHS: O; PinCount: 16; DigiKeyPartNumber: DS26C31TN-ND; Code_JEDEC: MS-001-BB; ComponentLink1Description: DS26C31T Datasheet; ComponentLink1URL: http://www.national.com/ds/DS/DS26C31T.pdf; ComponentLink2Description: DS26C31T Web Page; ComponentLink2URL: http://www.national.com/pf/DS/DS26C31T.html; ComponentLink3Description: N16E Package Page; ComponentLink3URL: http://www.national.com/packaging/folders/n16e.html
footprint N16E (DIP, 16-Leads, Row Spacing 7.62mm, Pitch 2.54mm, Body 19.3x6.35mm)
pins: 1 IN A (in), 2 OUT A (hiz), 3 ~{OUT} A (hiz), 4 OE (in), 5 ~{OUT} B (hiz), 6 OUT B (hiz), 7 IN B (in), 8 GND (power), 9 IN C (in), 10 OUT C (hiz), 11 ~{OUT} C (hiz), 12 ~{OE} (in), 13 ~{OUT} D (hiz), 14 OUT D (hiz), 15 IN D (in), 16 VDD (power)

## DS26C32AME/883
designator U?
CMOS Quad Differential Line Receiver; PartNumber: DS26C32AME/883; Manufacturer: National Semiconductor; CompType: Interface IC; PackageTopMarking: NS Q*ZSSXXYYA*DS26C32AME*/883 5962-*9164001M2A; PowerWise: N; Published: 4-Dec-2008; DatasheetVersion: Jun-1998; PackageVersion: revF, May-2004; PackageReference: E20A; Publisher: Altium Limited; PackageDescription: Leadless Chip Carrier, Type C, 20 Terminal; RoHS: N; PinCount: 20; Code_JEDEC: MS-004-CB; ComponentLink1Description: DS26C32AM Datasheet; ComponentLink1URL: http://www.national.com/ds/DS/DS26C32AM.pdf; ComponentLink2Description: DS26C32AM Web Page; ComponentLink2URL: http://www.national.com/pf/DS/DS26C32AM.html; ComponentLink3Description: E20A Package Page; ComponentLink3URL: http://www.national.com/packaging/folders/e20a.html
footprint E20A_N (Leadless Chip Carrier, 20-Leads, Body 8.9x8.9mm, Pitch 1.27mm, IPC Medium Density)
footprint E20A_L (Leadless Chip Carrier, 20-Leads, Body 8.9x8.9mm, Pitch 1.27mm, IPC High Density)
footprint E20A_M (Leadless Chip Carrier, 20-Leads, Body 8.9x8.9mm, Pitch 1.27mm, IPC Low Density)
pins: 1 NC, 2 IN A- (in), 3 IN A+ (in), 4 OUT A (hiz), 5 EN (in), 6 NC, 7 OUT C (hiz), 8 IN C+ (in), 9 IN C- (in), 10 GND (power), 11 NC, 12 IN D- (in), 13 IN D+ (in), 14 OUT D (hiz), 15 ~{EN} (in), 16 NC, 17 OUT B (hiz), 18 IN B+ (in), 19 IN B- (in), 20 VCC (power)

## DS26C32AMJ/883
designator U?
CMOS Quad Differential Line Receiver; PartNumber: DS26C32AMJ/883; Manufacturer: National Semiconductor; CompType: Interface IC; PackageTopMarking: NSZSSXXYYA*DS26C32AMJ/883 Q*5962-9164001MEA; PowerWise: N; Published: 4-Dec-2008; DatasheetVersion: Jun-1998; PackageVersion: revL, Sep-1993; PackageReference: J16A; Publisher: Altium Limited; PackageDescription: Cerdip (J), 16 Lead; RoHS: N; PinCount: 16; ComponentLink1Description: DS26C32AM Datasheet; ComponentLink1URL: http://www.national.com/ds/DS/DS26C32AM.pdf; ComponentLink2Description: DS26C32AM Web Page; ComponentLink2URL: http://www.national.com/pf/DS/DS26C32AM.html; ComponentLink3Description: J16A Package Page; ComponentLink3URL: http://www.national.com/packaging/folders/j16a.html
footprint J16A (DIP, 16-Leads, Row Spacing 7.62mm, Pitch 2.54mm, Body 19.56x6.73mm)
pins: 1 IN A- (in), 2 IN A+ (in), 3 OUT A (hiz), 4 OE (in), 5 OUT C (hiz), 6 IN C+ (in), 7 IN C- (in), 8 GND (power), 9 IN D- (in), 10 IN D+ (in), 11 OUT D (hiz), 12 ~{OE} (in), 13 OUT B (hiz), 14 IN B+ (in), 15 IN B- (in), 16 VDD (power)

## DS26C32AMW/883
designator U?
CMOS Quad Differential Line Receiver; PartNumber: DS26C32AMW/883; Manufacturer: National Semiconductor; CompType: Interface IC; PackageTopMarking: NSZSSXXYYA*DS26C32AMW*/883 Q 5962-*9164001MFA; PowerWise: N; MilaeroCode: B88; Published: 29-May-2009; DatasheetVersion: Jun-1998; PackageVersion: revT, Jul-2005; PackageReference: W16A; Publisher: Altium Limited; RoHS: N; PinCount: 16; Code_JEDEC: MO-092-AC; ComponentLink1Description: DS26C32AM Datasheet; ComponentLink1URL: http://www.national.com/ds/DS/DS26C32AM.pdf; ComponentLink2Description: DS26C32AM Web Page; ComponentLink2URL: http://www.national.com/pf/DS/DS26C32AM.html; ComponentLink3Description: W16A Package Page; ComponentLink3URL: http://www.national.com/packaging/folders/w16a.html
footprint W16A (DFP; 16 Leads; Body 9.9 x 7.6 mm (LxW max); Pitch 1.27 mm)
pins: 1 IN A- (in), 2 IN A+ (in), 3 OUT A (hiz), 4 OE (in), 5 OUT C (hiz), 6 IN C+ (in), 7 IN C- (in), 8 GND (power), 9 IN D- (in), 10 IN D+ (in), 11 OUT D (hiz), 12 ~{OE} (in), 13 OUT B (hiz), 14 IN B+ (in), 15 IN B- (in), 16 VCC (power)

## DS26C32AMWG/883
designator U?
CMOS Quad Differential Line Receiver; PartNumber: DS26C32AMWG/883; Manufacturer: National Semiconductor; CompType: Interface IC; PackageTopMarking: NSZSSXXYYA*DS26C32AMWG/*883 Q 5962*9164001MXA; PowerWise: N; MilaeroCode: B88; Published: 29-May-2009; DatasheetVersion: Jun-1998; PackageVersion: revE, Jul-2007; PackageReference: WG16A; Publisher: Altium Limited; RoHS: N; PinCount: 16; ComponentLink1Description: DS26C32AM Datasheet; ComponentLink1URL: http://www.national.com/ds/DS/DS26C32AM.pdf; ComponentLink2Description: DS26C32AM Web Page; ComponentLink2URL: http://www.national.com/pf/DS/DS26C32AM.html; ComponentLink3Description: WG16A Package Page; ComponentLink3URL: http://www.national.com/packaging/folders/wg16a.html
footprint WG16A_N (CERPACK, 16-Leads, Body 9.9x6.5mm, Pitch 1.27mm, IPC Medium Density)
footprint WG16A_L (CERPACK, 16-Leads, Body 9.9x6.5mm, Pitch 1.27mm, IPC High Density)
footprint WG16A_M (CERPACK, 16-Leads, Body 9.9x6.5mm, Pitch 1.27mm, IPC Low Density)
pins: 1 IN A- (in), 2 IN A+ (in), 3 OUT A (hiz), 4 OE (in), 5 OUT C (hiz), 6 IN C+ (in), 7 IN C- (in), 8 GND (power), 9 IN D- (in), 10 IN D+ (in), 11 OUT D (hiz), 12 ~{OE} (in), 13 OUT B (hiz), 14 IN B+ (in), 15 IN B- (in), 16 VCC (power)

## DS26C32ATM
designator U?
CMOS Quad Differential Line Receiver; PartNumber: DS26C32ATM; Manufacturer: National Semiconductor; CompType: Interface IC; PackageTopMarking: NSUZXYTT*DS26C32ATM; PowerWise: N; Published: 4-Dec-2008; DatasheetVersion: Jun-1998; PackageVersion: revJ, Aug-1995; PackageReference: M16A; Publisher: Altium Limited; PackageDescription: Molded Package, S.O., .150in Wide, 16 Lead; RoHS: O; PinCount: 16; DigiKeyPartNumber: DS26C32ATM-ND; Code_JEDEC: MS-012-AC; Code_IPC: SOIC127P600-16; ComponentLink1Description: DS26C32AT Datasheet; ComponentLink1URL: http://www.national.com/ds/DS/DS26C32AT.pdf; ComponentLink2Description: DS26C32AT Web Page; ComponentLink2URL: http://www.national.com/pf/DS/DS26C32AT.html; ComponentLink3Description: M16A Package Page; ComponentLink3URL: http://www.national.com/packaging/folders/m16a.html
footprint M16A_N (SOIC, 16-Leads, Body 9.9x3.9mm, Pitch 1.27mm, IPC Medium Density)
footprint M16A_L (SOIC, 16-Leads, Body 9.9x3.9mm, Pitch 1.27mm, IPC High Density)
footprint M16A_M (SOIC, 16-Leads, Body 9.9x3.9mm, Pitch 1.27mm, IPC Low Density)
pins: 1 IN A- (in), 2 IN A+ (in), 3 OUT A (hiz), 4 OE (in), 5 OUT C (hiz), 6 IN C+ (in), 7 IN C- (in), 8 GND (power), 9 IN D- (in), 10 IN D+ (in), 11 OUT D (hiz), 12 ~{OE} (in), 13 OUT B (hiz), 14 IN B+ (in), 15 IN B- (in), 16 VDD (power)

## DS26F31ME/883
designator U?
Quad High Speed Differential Line Driver; PartNumber: DS26F31ME/883; Manufacturer: National Semiconductor; CompType: Interface IC; PackageTopMarking: NS*ZSSXXYYA*DS26F31ME/*883 Q 5962-*7802302M2A; PowerWise: N; Published: 4-Dec-2008; DatasheetVersion: May-1999; PackageVersion: revF, May-2004; PackageReference: E20A; Publisher: Altium Limited; PackageDescription: Leadless Chip Carrier, Type C, 20 Terminal; RoHS: N; PinCount: 20; Code_JEDEC: MS-004-CB; ComponentLink1Description: DS26F31M Datasheet; ComponentLink1URL: http://www.national.com/ds/DS/DS26F31M.pdf; ComponentLink2Description: DS26F31M Web Page; ComponentLink2URL: http://www.national.com/pf/DS/DS26F31M.html; ComponentLink3Description: E20A Package Page; ComponentLink3URL: http://www.national.com/packaging/folders/e20a.html
footprint E20A_N (Leadless Chip Carrier, 20-Leads, Body 8.9x8.9mm, Pitch 1.27mm, IPC Medium Density)
footprint E20A_L (Leadless Chip Carrier, 20-Leads, Body 8.9x8.9mm, Pitch 1.27mm, IPC High Density)
footprint E20A_M (Leadless Chip Carrier, 20-Leads, Body 8.9x8.9mm, Pitch 1.27mm, IPC Low Density)
pins: 1 NC, 2 IN A (in), 3 OUT A (hiz), 4 ~{OUT} A (hiz), 5 OE (in), 6 NC, 7 ~{OUT} B (hiz), 8 OUT B (hiz), 9 IN B (in), 10 GND (power), 11 NC, 12 IN C (in), 13 OUT C (hiz), 14 ~{OUT} C (hiz), 15 ~{OE} (in), 16 NC, 17 ~{OUT} D (hiz), 18 OUT D (hiz), 19 IN D (in), 20 VDD (power)

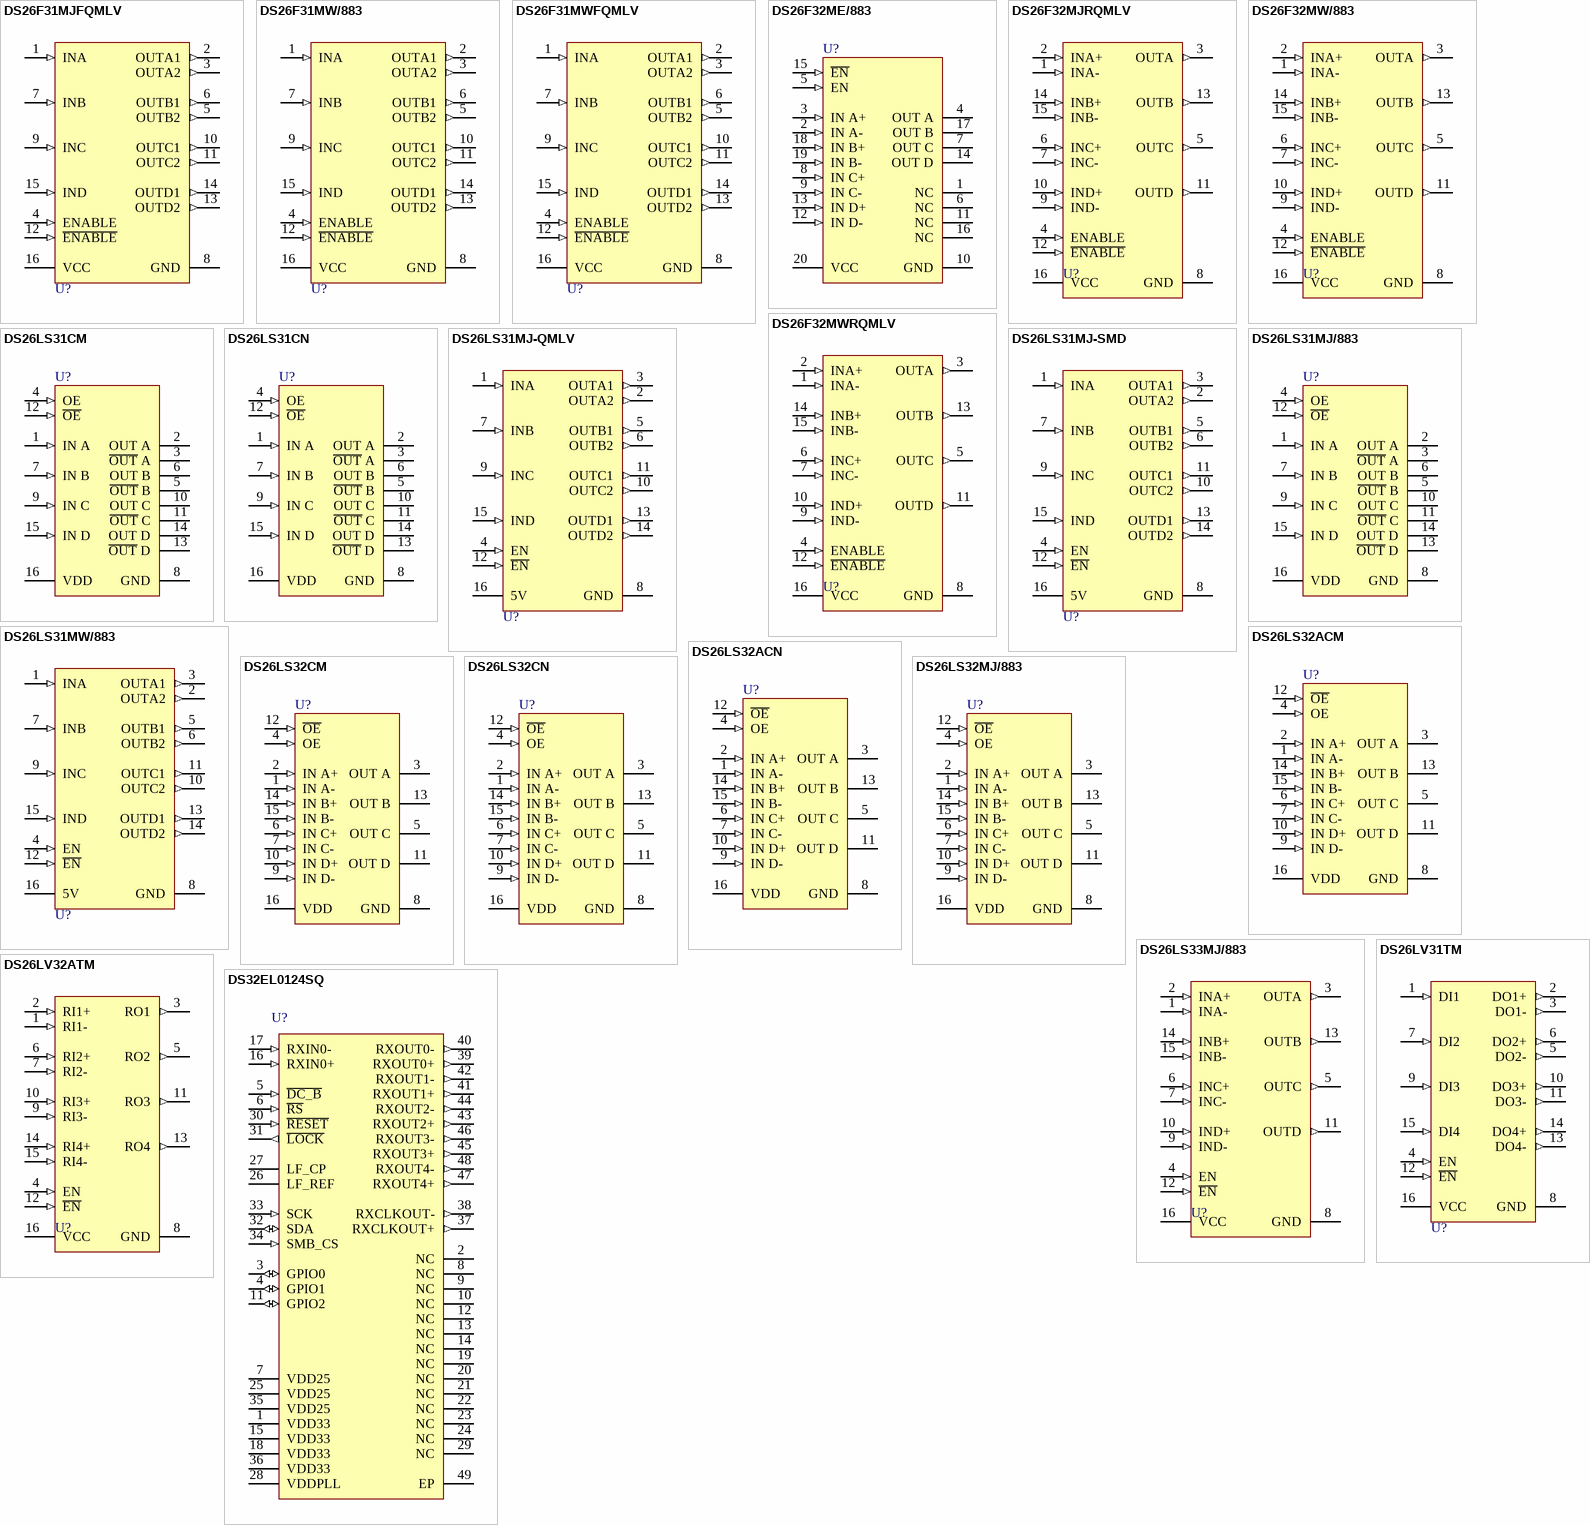
[diagram p9: symbols DS26F31MJFQMLV to DS32EL0124SQ]

## DS26F31MJFQMLV
designator U?
Quad High Speed Differential Line Driver; PartNumber: DS26F31MJFQMLV; Manufacturer: National Semiconductor; CompType: Interface IC; PackageTopMarking: NSZSSXXYYA*DS26F31MJFQV Q*5962F7802302VEA; Published: 4-Dec-2008; DatasheetVersion: May-1999; PackageVersion: revL, Sep-1993; PackageReference: J16A; Publisher: Altium Limited; PackageDescription: Cerdip (J), 16 Lead; RoHS: N; PinCount: 16; ComponentLink1Description: DS26F31M Datasheet; ComponentLink1URL: http://www.national.com/ds/DS/DS26F31M.pdf; ComponentLink2Description: DS26F31M Web Page; ComponentLink2URL: http://www.national.com/pf/DS/DS26F31M.html; ComponentLink3Description: J16A Package Page; ComponentLink3URL: http://www.national.com/packaging/folders/j16a.html
footprint J16A (DIP, 16-Leads, Row Spacing 7.62mm, Pitch 2.54mm, Body 19.56x6.73mm)
pins: 1 INA (in), 2 OUTA1 (out), 3 OUTA2 (out), 4 ENABLE (in), 5 OUTB2 (out), 6 OUTB1 (out), 7 INB (in), 8 GND (power), 9 INC (in), 10 OUTC1 (out), 11 OUTC2 (out), 12 ~{ENABLE} (in), 13 OUTD2 (out), 14 OUTD1 (out), 15 IND (in), 16 VCC (power)

## DS26F31MW/883
designator U?
Quad High Speed Differential Line Driver; PartNumber: DS26F31MW/883; Manufacturer: National Semiconductor; CompType: Interface IC; PackageTopMarking: NSZSSXXYYA*DS26F31MW*/883 5962-*7802302MFA*Q; PowerWise: N; MilaeroCode: B88; Published: 29-May-2009; DatasheetVersion: May-1999; PackageVersion: revT, Jul-2005; PackageReference: W16A; Publisher: Altium Limited; RoHS: N; PinCount: 16; Code_JEDEC: MO-092-AC; ComponentLink1Description: DS26F31M Datasheet; ComponentLink1URL: http://www.national.com/ds/DS/DS26F31M.pdf; ComponentLink2Description: DS26F31M Web Page; ComponentLink2URL: http://www.national.com/pf/DS/DS26F31M.html; ComponentLink3Description: W16A Package Page; ComponentLink3URL: http://www.national.com/packaging/folders/w16a.html
footprint W16A (DFP; 16 Leads; Body 9.9 x 7.6 mm (LxW max); Pitch 1.27 mm)
pins: 1 INA (in), 2 OUTA1 (out), 3 OUTA2 (out), 4 ENABLE (in), 5 OUTB2 (out), 6 OUTB1 (out), 7 INB (in), 8 GND (power), 9 INC (in), 10 OUTC1 (out), 11 OUTC2 (out), 12 ~{ENABLE} (in), 13 OUTD2 (out), 14 OUTD1 (out), 15 IND (in), 16 VCC (power)

## DS26F31MWFQMLV
designator U?
Quad High Speed Differential Line Driver; PartNumber: DS26F31MWFQMLV; Manufacturer: National Semiconductor; CompType: Interface IC; PackageTopMarking: NSZSSXXYYA*DS26F31MWF*QV Q 5962F*7802302VFA; PowerWise: N; MilaeroCode: DXX; Published: 29-May-2009; DatasheetVersion: May-1999; PackageVersion: revT, Jul-2005; PackageReference: W16A; Publisher: Altium Limited; RoHS: N; PinCount: 16; Code_JEDEC: MO-092-AC; ComponentLink1Description: DS26F31M Datasheet; ComponentLink1URL: http://www.national.com/ds/DS/DS26F31.pdf; ComponentLink2Description: DS26F31M Web Page; ComponentLink2URL: http://www.national.com/pf/DS/DS26F31M.html; ComponentLink3Description: W16A Package Page; ComponentLink3URL: http://www.national.com/packaging/folders/w16a.html
footprint W16A (DFP; 16 Leads; Body 9.9 x 7.6 mm (LxW max); Pitch 1.27 mm)
pins: 1 INA (in), 2 OUTA1 (out), 3 OUTA2 (out), 4 ENABLE (in), 5 OUTB2 (out), 6 OUTB1 (out), 7 INB (in), 8 GND (power), 9 INC (in), 10 OUTC1 (out), 11 OUTC2 (out), 12 ~{ENABLE} (in), 13 OUTD2 (out), 14 OUTD1 (out), 15 IND (in), 16 VCC (power)